# EAGLE library part 61201622323 (library Wuerth_Elektronik_eiCan_Box_Header_&_IDC_Connectors_v1.2)
WR-BHD 2.54mm Board to Cable Transition Connector, 16 Pins
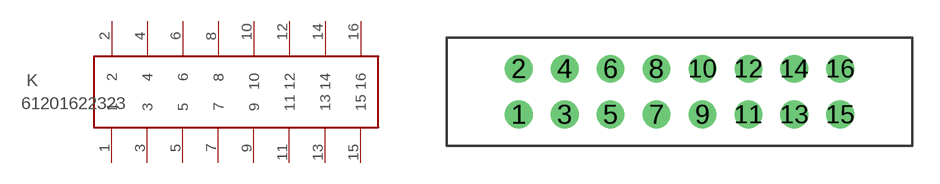
[diagram p167: symbol with the pads of 61201622323; footprint 61201622323]

Designator prefix K

## 61201622323  [61201622323]
1  1  pas
2  2  pas
3  3  pas
4  4  pas
5  5  pas
6  6  pas
7  7  pas
8  8  pas
9  9  pas
10  10  pas
11  11  pas
12  12  pas
13  13  pas
14  14  pas
15  15  pas
16  16  pas

## Footprint 61201622323 (pad centres in mm)
WR-BHD 2.54mm Board to Cable Transition Connector, 16 Pins
drill 1.02 round: 1 -2.54,-1.27; 2 -2.54,1.27; 3 0,-1.27; 4 0,1.27; 5 2.54,-1.27; 6 2.54,1.27; 7 5.08,-1.27; 8 5.08,1.27; 9 7.62,-1.27; 10 7.62,1.27; 11 10.16,-1.27; 12 10.16,1.27; 13 12.7,-1.27; 14 12.7,1.27; 15 15.24,-1.27; 16 15.24,1.27